# Altium footprint library STEM_PCB.PcbLib: 50 footprints (part 1 of 4)
Each footprint in its own frame and in the unit in brackets; x right, y up, seen from the top. Pads: shape width x height; smd on the part's side, far side on the other; paste and mask are expansions set on the pad; w line width, h text height; cw(c..) or ccw(c..) is an arc to the next point about the centre after c.
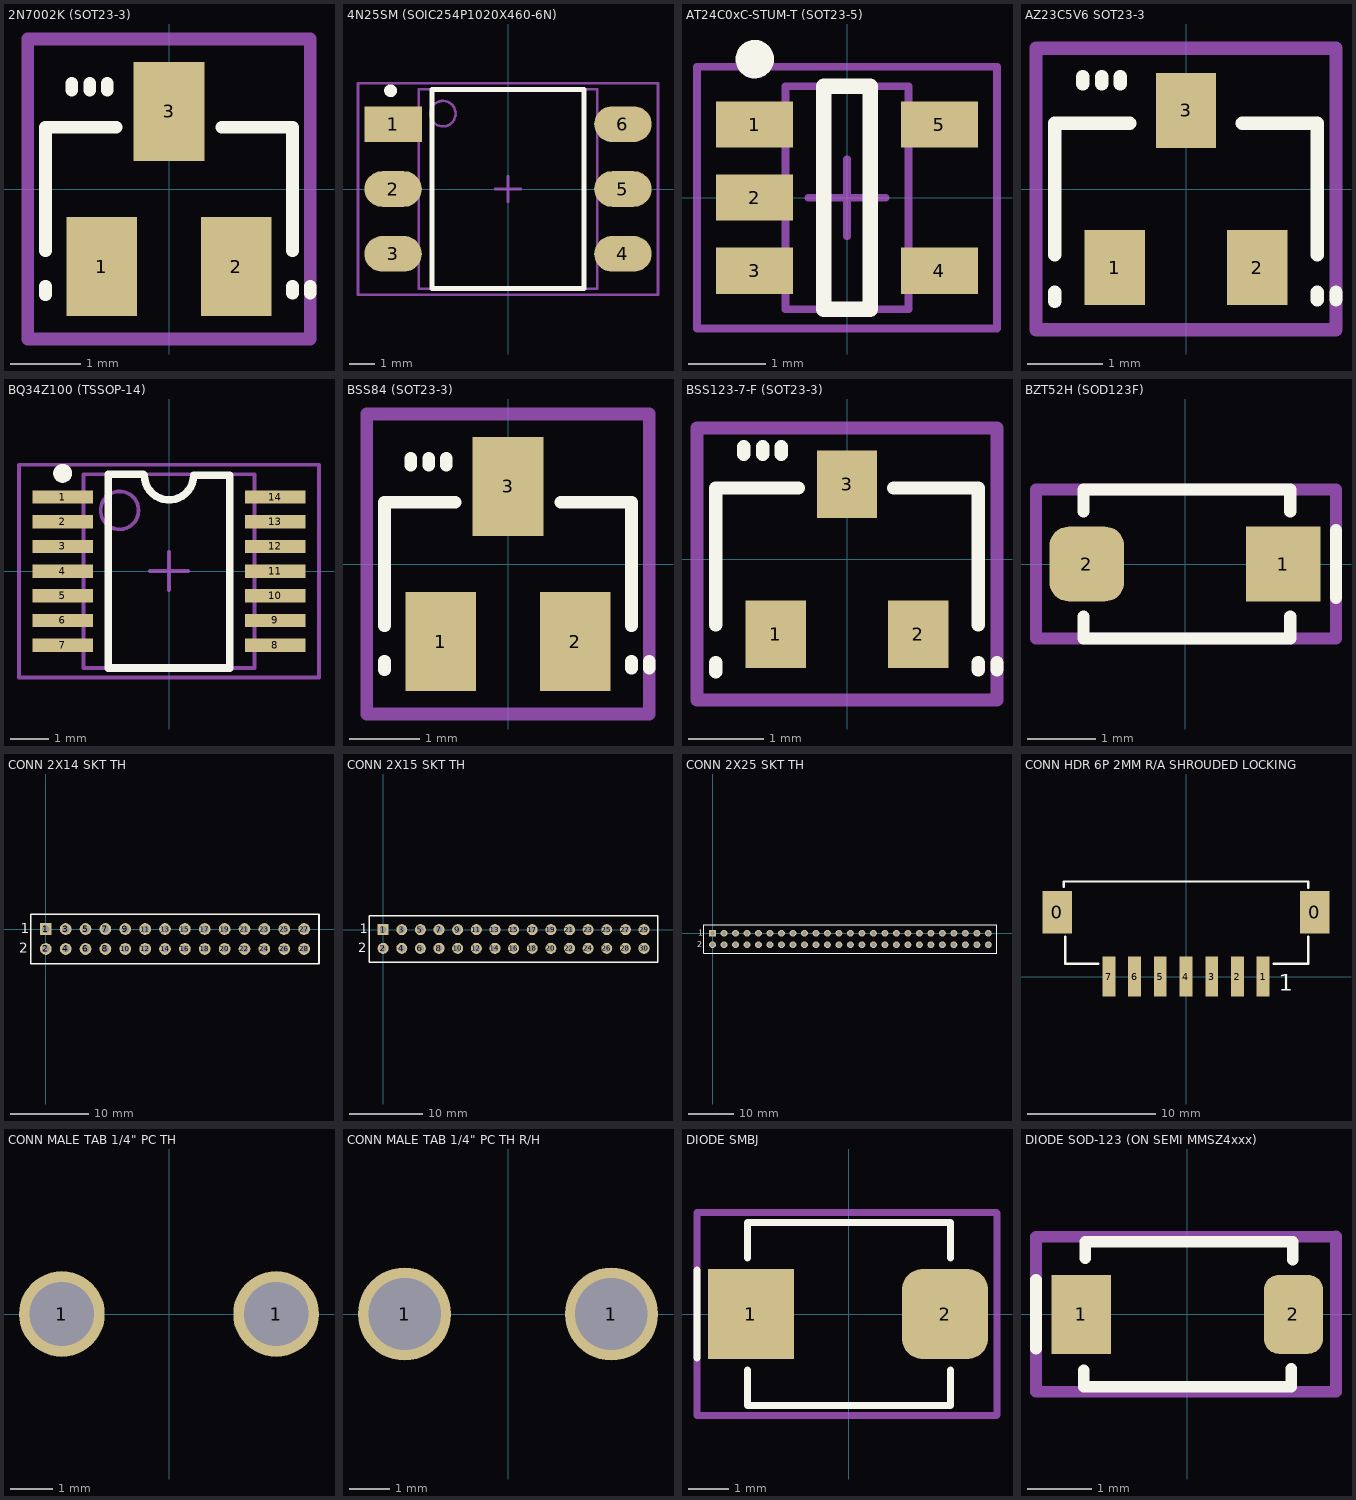
[diagram p0: the footprints below, top view; thin cyan lines are the x and y axes]

## 2N7002K (SOT23-3) [mm] "SOT-23-3 for 2N7002K"
height 1.12
pads (3):
  rect 1x1.4 smd: 1(-0.95,-1.1) 2(0.95,-1.1) 3(0,1.1)
Top Overlay:
  lines w0.178: -1.75,-1.5 -1.75,-1.375 ; -1.75,-0.875 -1.75,0.875 -0.75,0.875 ; -1.375,1.4 -1.375,1.5 ; -1.125,1.4 -1.125,1.5 ; -0.875,1.4 -0.875,1.5 ; 0.75,0.875 1.75,0.875 1.75,-0.875 ; 1.75,-1.475 1.75,-1.375 ; 2,-1.475 2,-1.375
Mechanical 15:
  lines w0.178: -2,-2.125 -2,2.125 2,2.125 2,-2.125 -2,-2.125
3D body: height 1.12, standoff 0.01, extent -1.525,-0.7 1.525,0.7
3D body: height 0.25, standoff 0, extent -0.25,0.7 0.25,1.325
3D body: height 0.25, standoff 0, extent -1.2,-1.325 -0.7,-0.7
3D body: height 0.25, standoff 0, extent 0.7,-1.325 1.2,-0.7

## 4N25SM (SOIC254P1020X460-6N) [mm] "SOIC, 6-Leads, Body 7.8x7.0mm (max), Pitch 2.54mm, IPC Medium Density"
height 4.6
pads (6):
  rect 2.25x1.4 smd: 1(-4.5,2.54)
  oval 2.25x1.4 smd: 2(-4.5,0) 3(-4.5,-2.54) 4(4.5,-2.54) 5(4.5,0) 6(4.5,2.54)
Top Overlay:
  circle w0.25: c-4.6,3.85 r0.125
  lines w0.2: -2.975,-3.9 -2.975,3.9 2.975,3.9 2.975,-3.9 -2.975,-3.9
Mechanical 13:
  circle w0.1: c-2.55,2.95 r0.5
  lines w0.1: -3.5,-3.9 -3.5,3.9 3.5,3.9 3.5,-3.9 -3.5,-3.9
Mechanical 15:
  lines w0.1: -0.5,0 0.5,0 ; 0,-0.5 0,0.5 ; -5.875,-4.15 -5.875,4.15 5.875,4.15 5.875,-4.15 -5.875,-4.15
3D body: height 4.6, standoff 0.1, extent -3.5,-3.9 3.5,3.9
3D body: height 0.6, standoff 0, extent -5.25,1.9 -3.5,3.2
3D body: height 0.6, standoff 0, extent -5.25,-0.65 -3.5,0.65
3D body: height 0.6, standoff 0, extent -5.25,-3.2 -3.5,-1.9
3D body: height 0.6, standoff 0, extent 3.5,-3.2 5.25,-1.9
3D body: height 0.6, standoff 0, extent 3.5,-0.65 5.25,0.65
3D body: height 0.6, standoff 0, extent 3.5,1.9 5.25,3.2

## AT24C0xC-STUM-T (SOT23-5) [mm]
height 1
pads (5):
  rect 1x0.6 smd: 1(-1.2,0.95) 2(-1.2,0) 3(-1.2,-0.95) 4(1.2,-0.95) 5(1.2,0.95)
Top Overlay:
  circle w0.25: c-1.2,1.8 r0.125
  lines w0.2: -0.3,-1.45 0.3,-1.45 0.3,1.45 -0.3,1.45 -0.3,-1.45
Mechanical 13:
  lines w0.1: -0.8,-1.45 -0.8,1.45 0.8,1.45 0.8,-1.45 -0.8,-1.45
Mechanical 15:
  lines w0.1: -0.5,0 0.5,0 ; 0,-0.5 0,0.5 ; -1.95,-1.7 -1.95,1.7 1.95,1.7 1.95,-1.7 -1.95,-1.7
3D body: height 1, standoff 0, extent -0.8,-1.45 0.8,1.45

## AZ23C5V6 SOT23-3 [mm] "SOT-23-3 for AZ23C5V6"
height 1.2
pads (3):
  rect 0.8x1 smd: 1(-0.95,-1.05) 2(0.95,-1.05) 3(0,1.05)
Top Overlay:
  lines w0.178: -1.75,-1.5 -1.75,-1.375 ; -1.75,-0.875 -1.75,0.875 -0.75,0.875 ; -1.375,1.4 -1.375,1.5 ; -1.125,1.4 -1.125,1.5 ; -0.875,1.4 -0.875,1.5 ; 0.75,0.875 1.75,0.875 1.75,-0.875 ; 1.75,-1.475 1.75,-1.375 ; 2,-1.475 2,-1.375
Mechanical 15:
  lines w0.178: -2,-1.875 2,-1.875 2,1.875 -2,1.875 -2,-1.875
3D body: height 1.2, standoff 0.05, extent -1.525,-0.7 1.525,0.7
3D body: height 0.11, standoff 0, extent -1.2,-1.325 -0.7,-0.7
3D body: height 0.11, standoff 0, extent 0.7,-1.325 1.2,-0.7
3D body: height 0.11, standoff 0, extent -0.25,0.7 0.25,1.325

## BQ34Z100 (TSSOP-14) [mm] "TSOP, 14-Leads, Body 5.1x4.5mm (max), Pitch 0.65mm, IPC Medium Density"
height 1.2
pads (14):
  rect 1.6x0.35 smd: 1(-2.8,1.95) 2(-2.8,1.3) 3(-2.8,0.65) 4(-2.8,0) 5(-2.8,-0.65) 6(-2.8,-1.3) 7(-2.8,-1.95) 8(2.8,-1.95) 9(2.8,-1.3) 10(2.8,-0.65) 11(2.8,0) 12(2.8,0.65) 13(2.8,1.3) 14(2.8,1.95)
Top Overlay:
  circle w0.25: c-2.8,2.575 r0.125
  lines w0.2: -0.675,2.55 -1.6,2.55 -1.6,-2.55 1.6,-2.55 1.6,2.525 0.65,2.525 cw(c0,2.525) -0.65,2.525
Mechanical 13:
  circle w0.1: c-1.3,1.6 r0.5
  lines w0.1: -2.25,-2.55 -2.25,2.55 2.25,2.55 2.25,-2.55 -2.25,-2.55
Mechanical 15:
  lines w0.1: -0.5,0 0.5,0 ; 0,-0.5 0,0.5 ; -3.95,-2.8 -3.95,2.8 3.95,2.8 3.95,-2.8 -3.95,-2.8
3D body: height 1.2, standoff 0.15, extent -2.25,-2.55 2.25,2.55
3D body: height 0.25, standoff 0, extent -3.312,1.8 -2.237,2.1
3D body: height 0.25, standoff 0, extent 2.238,1.15 3.313,1.45
3D body: height 0.25, standoff 0, extent 2.225,0.5 3.3,0.8
3D body: height 0.25, standoff 0, extent 2.225,-0.15 3.3,0.15
3D body: height 0.25, standoff 0, extent 2.225,-0.8 3.3,-0.5
3D body: height 0.25, standoff 0, extent 2.225,-1.45 3.3,-1.15
3D body: height 0.25, standoff 0, extent 2.225,-2.1 3.3,-1.8
3D body: height 0.25, standoff 0, extent 2.225,1.8 3.3,2.1
3D body: height 0.25, standoff 0, extent -3.312,1.15 -2.237,1.45
3D body: height 0.25, standoff 0, extent -3.312,0.5 -2.237,0.8
3D body: height 0.25, standoff 0, extent -3.312,-0.15 -2.237,0.15
3D body: height 0.25, standoff 0, extent -3.312,-0.8 -2.237,-0.5
3D body: height 0.25, standoff 0, extent -3.312,-1.45 -2.237,-1.15
3D body: height 0.25, standoff 0, extent -3.312,-2.1 -2.237,-1.8

## BSS84 (SOT23-3) [mm] "SOT-23-3 for BSS84"
height 1.1
pads (3):
  rect 1x1.4 smd: 1(-0.95,-1.1) 2(0.95,-1.1) 3(0,1.1)
Top Overlay:
  lines w0.178: -1.75,-1.5 -1.75,-1.375 ; -1.75,-0.875 -1.75,0.875 -0.75,0.875 ; -1.375,1.4 -1.375,1.5 ; -1.125,1.4 -1.125,1.5 ; -0.875,1.4 -0.875,1.5 ; 0.75,0.875 1.75,0.875 1.75,-0.875 ; 1.75,-1.475 1.75,-1.375 ; 2,-1.475 2,-1.375
Mechanical 15:
  lines w0.178: -2,-2.125 2,-2.125 2,2.125 -2,2.125 -2,-2.125
3D body: height 1.12, standoff 0.01, extent -1.525,-0.7 1.525,0.7
3D body: height 0.25, standoff 0, extent -0.25,0.7 0.25,1.325
3D body: height 0.25, standoff 0, extent -1.2,-1.325 -0.7,-0.7
3D body: height 0.25, standoff 0, extent 0.7,-1.325 1.2,-0.7

## BSS123-7-F (SOT23-3) [mm] "SOT-23-3 for BSS123-7-F"
height 1.2
pads (3):
  rect 0.8x0.9 smd: 1(-0.95,-1) 2(0.95,-1) 3(0,1)
Top Overlay:
  lines w0.178: -1.75,-1.5 -1.75,-1.375 ; -1.75,-0.875 -1.75,0.35 -1.75,0.95 -0.65,0.95 ; -1.375,1.4 -1.375,1.5 ; -1.125,1.4 -1.125,1.5 ; -0.875,1.4 -0.875,1.5 ; 0.625,0.95 1.75,0.95 1.75,0.45 1.75,-0.875 ; 1.75,-1.475 1.75,-1.375 ; 2,-1.475 2,-1.375
Mechanical 15:
  lines w0.178: -2,-1.875 2,-1.875 2,1.75 -2,1.75 -2,-1.875
3D body: height 1.2, standoff 0.05, extent -1.5,-0.7 1.5,0.7
3D body: height 0.11, standoff 0, extent -1.2,-1.2 -0.7,-0.7
3D body: height 0.11, standoff 0, extent 0.7,-1.2 1.2,-0.7
3D body: height 0.11, standoff 0, extent -0.25,0.7 0.25,1.2

## BZT52H (SOD123F) [mm]
height 1.2
pads (2):
  rect 1.1x1.1 smd: 1(1.45,0)
  rrect50% 1.1x1.1 smd: 2(-1.45,0)
Top Overlay:
  lines w0.178: -1.5,-0.775 -1.5,-1.1 1.55,-1.1 1.55,-0.775 ; -1.5,0.775 -1.5,1.1 1.55,1.1 1.55,0.775 ; 2.225,-0.5 2.225,0.5
Mechanical 15:
  lines w0.178: -2.2,-1.1 -2.2,1.1 2.225,1.1 2.225,-1.1 -2.2,-1.1
3D body: height 1.2, standoff 0, extent -1.35,-0.85 1.35,0.85
3D body: height 0.25, standoff 0, extent 1.35,-0.35 1.8,0.35
3D body: height 0.25, standoff 0, extent -1.8,-0.35 -1.35,0.35

## CONN 2X14 SKT TH [mm]
pads (28):
  rect 1.5x1.5 hole 0.953: 1(0,0)
  round 1.5 hole 0.953: 2(0,-2.54) 3(2.54,0) 4(2.54,-2.54) 5(5.08,0) 6(5.08,-2.54) 7(7.62,0) 8(7.62,-2.54) 9(10.16,0) 10(10.16,-2.54) 11(12.7,0) 12(12.7,-2.54) 13(15.24,0) 14(15.24,-2.54) 15(17.78,0) 16(17.78,-2.54) 17(20.32,0) 18(20.32,-2.54) 19(22.86,0) 20(22.86,-2.54) 21(25.4,0) 22(25.4,-2.54) 23(27.94,0) 24(27.94,-2.54) 27(33.02,0) 28(33.02,-2.54)
  round 1.5 hole 0.953 unplated: 25(30.48,0) 26(30.48,-2.54)
Top Overlay:
  lines w0.2: -1.905,-4.445 -1.905,1.905 34.925,1.905 34.925,-4.445 -1.905,-4.445
  text "2" at -3.429,-3.048 h1.27
  text "1" at -3.175,-0.508 h1.27
3D body: height 6.38, standoff -3.17, extent 25.095,-0.305 25.705,0.305
3D body: height 6.38, standoff -3.17, extent 27.635,-0.305 28.245,0.305
3D body: height 6.38, standoff -3.17, extent 30.175,-0.305 30.785,0.305
3D body: height 6.38, standoff -3.17, extent 32.715,-0.305 33.325,0.305
3D body: height 6.38, standoff -3.17, extent 25.095,-2.845 25.705,-2.235
3D body: height 6.38, standoff -3.17, extent 27.635,-2.845 28.245,-2.235
3D body: height 6.38, standoff -3.17, extent 30.175,-2.845 30.785,-2.235
3D body: height 6.38, standoff -3.17, extent 32.715,-2.845 33.325,-2.235
3D body: height 6.38, standoff -3.17, extent 12.395,-0.305 13.005,0.305
3D body: height 6.38, standoff -3.17, extent 14.935,-0.305 15.545,0.305
3D body: height 6.38, standoff -3.17, extent 17.475,-0.305 18.085,0.305
3D body: height 6.38, standoff -3.17, extent 20.015,-0.305 20.625,0.305
3D body: height 6.38, standoff -3.17, extent 22.555,-0.305 23.165,0.305
3D body: height 6.38, standoff -3.17, extent 12.395,-2.845 13.005,-2.235
3D body: height 6.38, standoff -3.17, extent 14.935,-2.845 15.545,-2.235
3D body: height 6.38, standoff -3.17, extent 17.475,-2.845 18.085,-2.235
3D body: height 6.38, standoff -3.17, extent 20.015,-2.845 20.625,-2.235
3D body: height 6.38, standoff -3.17, extent 22.555,-2.845 23.165,-2.235
3D body: height 6.38, standoff -3.17, extent -0.305,-2.845 0.305,-2.235
3D body: height 6.38, standoff -3.17, extent 2.235,-2.845 2.845,-2.235
3D body: height 6.38, standoff -3.17, extent 4.775,-2.845 5.385,-2.235
3D body: height 6.38, standoff -3.17, extent 7.315,-2.845 7.925,-2.235
3D body: height 6.38, standoff -3.17, extent 9.855,-2.845 10.465,-2.235
3D body: height 6.38, standoff -3.17, extent 9.855,-0.305 10.465,0.305
3D body: height 6.38, standoff -3.17, extent 7.315,-0.305 7.925,0.305
3D body: height 6.38, standoff -3.17, extent 4.775,-0.305 5.385,0.305
3D body: height 6.38, standoff -3.17, extent 2.235,-0.305 2.845,0.305
3D body: height 6.38, standoff -3.17, extent -0.305,-0.305 0.305,0.305
3D body: height 6.35, standoff 0, extent -1.27,-3.81 34.29,1.27

## CONN 2X15 SKT TH [mm]
height 11.049
pads (30):
  rect 1.5x1.5 hole 0.953: 1(0,0)
  round 1.5 hole 0.953: 2(0,-2.54) 3(2.54,0) 4(2.54,-2.54) 5(5.08,0) 6(5.08,-2.54) 7(7.62,0) 8(7.62,-2.54) 9(10.16,0) 10(10.16,-2.54) 11(12.7,0) 12(12.7,-2.54) 13(15.24,0) 14(15.24,-2.54) 15(17.78,0) 16(17.78,-2.54) 17(20.32,0) 18(20.32,-2.54) 19(22.86,0) 20(22.86,-2.54) 21(25.4,0) 22(25.4,-2.54) 23(27.94,0) 24(27.94,-2.54) 27(33.02,0) 28(33.02,-2.54) 29(35.56,0) 30(35.56,-2.54)
  round 1.5 hole 0.953 unplated: 25(30.48,0) 26(30.48,-2.54)
Top Overlay:
  lines w0.2: -1.905,-4.445 -1.905,1.905 37.465,1.905 37.465,-4.445 -1.905,-4.445
  text "2" at -3.429,-3.048 h1.27
  text "1" at -3.175,-0.508 h1.27
3D body: height 6.38, standoff -3.17, extent 25.095,-0.305 25.705,0.305
3D body: height 6.38, standoff -3.17, extent 27.635,-0.305 28.245,0.305
3D body: height 6.38, standoff -3.17, extent 30.175,-0.305 30.785,0.305
3D body: height 6.38, standoff -3.17, extent 32.715,-0.305 33.325,0.305
3D body: height 6.38, standoff -3.17, extent 25.095,-2.845 25.705,-2.235
3D body: height 6.38, standoff -3.17, extent 27.635,-2.845 28.245,-2.235
3D body: height 6.38, standoff -3.17, extent 30.175,-2.845 30.785,-2.235
3D body: height 6.38, standoff -3.17, extent 32.715,-2.845 33.325,-2.235
3D body: height 6.38, standoff -3.17, extent 12.395,-0.305 13.005,0.305
3D body: height 6.38, standoff -3.17, extent 14.935,-0.305 15.545,0.305
3D body: height 6.38, standoff -3.17, extent 17.475,-0.305 18.085,0.305
3D body: height 6.38, standoff -3.17, extent 20.015,-0.305 20.625,0.305
3D body: height 6.38, standoff -3.17, extent 22.555,-0.305 23.165,0.305
3D body: height 6.38, standoff -3.17, extent 12.395,-2.845 13.005,-2.235
3D body: height 6.38, standoff -3.17, extent 14.935,-2.845 15.545,-2.235
3D body: height 6.38, standoff -3.17, extent 17.475,-2.845 18.085,-2.235
3D body: height 6.38, standoff -3.17, extent 20.015,-2.845 20.625,-2.235
3D body: height 6.38, standoff -3.17, extent 22.555,-2.845 23.165,-2.235
3D body: height 6.38, standoff -3.17, extent -0.305,-2.845 0.305,-2.235
3D body: height 6.38, standoff -3.17, extent 2.235,-2.845 2.845,-2.235
3D body: height 6.38, standoff -3.17, extent 4.775,-2.845 5.385,-2.235
3D body: height 6.38, standoff -3.17, extent 7.315,-2.845 7.925,-2.235
3D body: height 6.38, standoff -3.17, extent 9.855,-2.845 10.465,-2.235
3D body: height 6.38, standoff -3.17, extent 9.855,-0.305 10.465,0.305
3D body: height 6.38, standoff -3.17, extent 7.315,-0.305 7.925,0.305
3D body: height 6.38, standoff -3.17, extent 4.775,-0.305 5.385,0.305
3D body: height 6.38, standoff -3.17, extent 2.235,-0.305 2.845,0.305
3D body: height 6.38, standoff -3.17, extent -0.305,-0.305 0.305,0.305
3D body: height 6.35, standoff 0, extent -1.27,-3.81 36.83,1.27
3D body: height 6.38, standoff -3.17, extent 35.255,-0.305 35.865,0.305
3D body: height 6.38, standoff -3.17, extent 35.255,-2.845 35.865,-2.235

## CONN 2X25 SKT TH [mm]
pads (50):
  rect 1.5x1.5 hole 0.953: 1(0,0)
  round 1.5 hole 0.953: 2(0,-2.54) 3(2.54,0) 4(2.54,-2.54) 5(5.08,0) 6(5.08,-2.54) 7(7.62,0) 8(7.62,-2.54) 9(10.16,0) 10(10.16,-2.54) 11(12.7,0) 12(12.7,-2.54) 13(15.24,0) 14(15.24,-2.54) 15(17.78,0) 16(17.78,-2.54) 17(20.32,0) 18(20.32,-2.54) 19(22.86,0) 20(22.86,-2.54) 21(25.4,0) 22(25.4,-2.54) 23(27.94,0) 24(27.94,-2.54) 27(33.02,0) 28(33.02,-2.54) 29(35.56,0) 30(35.56,-2.54) 31(38.1,0) 32(38.1,-2.54) 33(40.64,0) 34(40.64,-2.54) 35(43.18,0) 36(43.18,-2.54) 37(45.72,0) 38(45.72,-2.54) 39(48.26,0) 40(48.26,-2.54) 41(50.8,0) 42(50.8,-2.54) 43(53.34,0) 44(53.34,-2.54) 45(55.88,0) 46(55.88,-2.54) 47(58.42,0) 48(58.42,-2.54) 49(60.96,0) 50(60.96,-2.54)
  round 1.5 hole 0.953 unplated: 25(30.48,0) 26(30.48,-2.54)
Top Overlay:
  lines w0.2: -1.905,-4.445 62.865,-4.445 62.865,1.905 -1.905,1.905 -1.905,-4.445
  text "1" at -3.175,-0.508 h1.27
  text "2" at -3.429,-3.048 h1.27
3D body: height 6.35, standoff 0, extent -1.27,-3.81 62.23,1.778
3D body: height 6.38, standoff -3.17, extent -0.305,-0.305 0.305,0.305
3D body: height 6.38, standoff -3.17, extent 2.235,-0.305 2.845,0.305
3D body: height 6.38, standoff -3.17, extent 4.775,-0.305 5.385,0.305
3D body: height 6.38, standoff -3.17, extent 7.315,-0.305 7.925,0.305
3D body: height 6.38, standoff -3.17, extent 9.855,-0.305 10.465,0.305
3D body: height 6.38, standoff -3.17, extent 9.855,-2.845 10.465,-2.235
3D body: height 6.38, standoff -3.17, extent 7.315,-2.845 7.925,-2.235
3D body: height 6.38, standoff -3.17, extent 4.775,-2.845 5.385,-2.235
3D body: height 6.38, standoff -3.17, extent 2.235,-2.845 2.845,-2.235
3D body: height 6.38, standoff -3.17, extent -0.305,-2.845 0.305,-2.235
3D body: height 6.38, standoff -3.17, extent 22.555,-2.845 23.165,-2.235
3D body: height 6.38, standoff -3.17, extent 20.015,-2.845 20.625,-2.235
3D body: height 6.38, standoff -3.17, extent 17.475,-2.845 18.085,-2.235
3D body: height 6.38, standoff -3.17, extent 14.935,-2.845 15.545,-2.235
3D body: height 6.38, standoff -3.17, extent 12.395,-2.845 13.005,-2.235
3D body: height 6.38, standoff -3.17, extent 22.555,-0.305 23.165,0.305
3D body: height 6.38, standoff -3.17, extent 20.015,-0.305 20.625,0.305
3D body: height 6.38, standoff -3.17, extent 17.475,-0.305 18.085,0.305
3D body: height 6.38, standoff -3.17, extent 14.935,-0.305 15.545,0.305
3D body: height 6.38, standoff -3.17, extent 12.395,-0.305 13.005,0.305
3D body: height 6.38, standoff -3.17, extent 35.255,-2.845 35.865,-2.235
3D body: height 6.38, standoff -3.17, extent 32.715,-2.845 33.325,-2.235
3D body: height 6.38, standoff -3.17, extent 30.175,-2.845 30.785,-2.235
3D body: height 6.38, standoff -3.17, extent 27.635,-2.845 28.245,-2.235
3D body: height 6.38, standoff -3.17, extent 25.095,-2.845 25.705,-2.235
3D body: height 6.38, standoff -3.17, extent 35.255,-0.305 35.865,0.305
3D body: height 6.38, standoff -3.17, extent 32.715,-0.305 33.325,0.305
3D body: height 6.38, standoff -3.17, extent 30.175,-0.305 30.785,0.305
3D body: height 6.38, standoff -3.17, extent 27.635,-0.305 28.245,0.305
3D body: height 6.38, standoff -3.17, extent 25.095,-0.305 25.705,0.305
3D body: height 6.38, standoff -3.17, extent 47.955,-0.305 48.565,0.305
3D body: height 6.38, standoff -3.17, extent 45.415,-0.305 46.025,0.305
3D body: height 6.38, standoff -3.17, extent 42.875,-0.305 43.485,0.305
3D body: height 6.38, standoff -3.17, extent 40.335,-0.305 40.945,0.305
3D body: height 6.38, standoff -3.17, extent 37.795,-0.305 38.405,0.305
3D body: height 6.38, standoff -3.17, extent 47.955,-2.845 48.565,-2.235
3D body: height 6.38, standoff -3.17, extent 45.415,-2.845 46.025,-2.235
3D body: height 6.38, standoff -3.17, extent 42.875,-2.845 43.485,-2.235
3D body: height 6.38, standoff -3.17, extent 40.335,-2.845 40.945,-2.235
3D body: height 6.38, standoff -3.17, extent 37.795,-2.845 38.405,-2.235
3D body: height 6.38, standoff -3.17, extent 60.655,-0.305 61.265,0.305
3D body: height 6.38, standoff -3.17, extent 58.115,-0.305 58.725,0.305
3D body: height 6.38, standoff -3.17, extent 55.575,-0.305 56.185,0.305
3D body: height 6.38, standoff -3.17, extent 53.035,-0.305 53.645,0.305
3D body: height 6.38, standoff -3.17, extent 50.495,-0.305 51.105,0.305
3D body: height 6.38, standoff -3.17, extent 60.655,-2.845 61.265,-2.235
3D body: height 6.38, standoff -3.17, extent 58.115,-2.845 58.725,-2.235
3D body: height 6.38, standoff -3.17, extent 55.575,-2.845 56.185,-2.235
3D body: height 6.38, standoff -3.17, extent 53.035,-2.845 53.645,-2.235
3D body: height 6.38, standoff -3.17, extent 50.495,-2.845 51.105,-2.235

## CONN HDR 6P 2MM R/A SHROUDED LOCKING [mm]
height 5.4
pads (9):
  rect 2.3x3.3 smd: 0(-10.02,5) 0(10.02,5)
  rect 1x3.1 smd: 1(6,0) 2(4,0) 3(2,0) 4(0,0) 5(-2,0) 6(-4,0) 7(-6,0)
Top Overlay:
  lines w0.178: -9.5,7 -9.5,7.4 9.5,7.4 9.5,6.9 ; -9.4,3.1 -9.4,1 -6.8,1 ; 6.8,1 9.5,1 9.5,3.1
  text "1" at 7.2,-1.1 h1.27
3D body: height 4.25, standoff 3.75, extent 5.75,1.45 6.249,6.95
3D body: height 4.25, standoff 3.75, extent 3.75,1.45 4.249,6.95
3D body: height 4.25, standoff 3.75, extent 1.75,1.45 2.249,6.95
3D body: height 4.25, standoff 3.75, extent -0.275,1.45 0.224,6.95
3D body: height 4.25, standoff 3.75, extent -2.25,1.45 -1.751,6.95
3D body: height 4.25, standoff 3.75, extent -4.25,1.45 -3.751,6.95
3D body: height 4.25, standoff 3.75, extent -6.25,1.45 -5.751,6.95
3D body: height 5.6, standoff 0, extent -8.775,1.425 8.775,1.9
3D body: height 5.6, standoff 0, extent 8.775,1.25 9.25,7.15
3D body: height 5.6, standoff 0, extent -9.25,1.25 -8.775,7.15
3D body: height 5.6, standoff 5.1, extent -9.25,1.25 9.25,7.15
3D body: height 0.75, standoff 0, extent 5.65,-1.25 6.35,1.25
3D body: height 0.75, standoff 0, extent 3.65,-1.25 4.35,1.25
3D body: height 0.75, standoff 0, extent 1.65,-1.25 2.35,1.25
3D body: height 0.75, standoff 0, extent -0.35,-1.25 0.35,1.25
3D body: height 0.75, standoff 0, extent -2.35,-1.25 -1.65,1.25
3D body: height 0.75, standoff 0, extent -4.35,-1.25 -3.65,1.25
3D body: height 0.75, standoff 0, extent -6.35,-1.25 -5.65,1.25
3D body: height 1.5, standoff 0, extent 9.25,3.95 10.75,6.15
3D body: height 1.5, standoff 0, extent -10.75,3.95 -9.25,6.15
3D body: height 0.5, standoff 0, extent -9.25,1.25 9.25,7.15

## CONN MALE TAB 1/4" PC TH [mil] "Keystone 1287-ST"
height 402
pads (2):
  round 80 hole 60: 1(-100,0) 1(100,0)
3D body: height 402, standoff 0, extent -125,-16 125,16
3D body: height 90, standoff 0, extent -156,-16 156,16
3D body: height 0, standoff -150, extent -125,-16 -75,16
3D body: height 90, standoff 0, extent -125,-16 -75,16
3D body: height 0, standoff -150, extent 75,-16 125,16
3D body: height 90, standoff 0, extent -59.52,-59.88 60.01,59.88

## CONN MALE TAB 1/4" PC TH R/H [mil] "Keystone 4966"
height 402
pads (2):
  round 90 hole 70: 1(-100,0) 1(100,0)
3D body: height 0, standoff -150, extent -128,-16 -72,16
3D body: height 350, standoff 100, extent -462,-16 128,16
3D body: height 0, standoff -150, extent 72.01,-16 128,16
3D body: height 100, standoff 0, extent -150,-16 128,16

## DIODE SMBJ [mm]
height 2.44
pads (2):
  rect 2.16x2.26 smd: 1(-2.45,0)
  rrect50% 2.16x2.26 smd: 2(2.4,0)
Top Overlay:
  lines w0.178: -3.8,-1.1 -3.8,1.1 ; -2.54,-1.397 -2.54,-2.286 2.54,-2.286 2.54,-1.397 ; -2.54,1.397 -2.54,2.286 2.54,2.286 2.54,1.397
Mechanical 15:
  lines w0.178: -3.8,-2.54 -3.8,-2.1 -3.8,2.1 -3.8,2.53 -3.79,2.54 3.683,2.54 3.7,2.523 3.7,2.1 3.7,-2.523 3.683,-2.54 -3.8,-2.54
3D body: height 2.44, standoff 0.2, extent -2.286,-2.032 2.286,2.032
3D body: height 1.22, standoff 0, extent -2.794,-1.092 -1.27,1.092
3D body: height 1.22, standoff 0, extent 1.27,-1.092 2.794,1.092
3D body: height 2.46, standoff 0.25, extent -1.905,-1.778 -1.651,1.778

## DIODE SOD-123 (ON SEMI MMSZ4xxx) [mil]
height 53
pads (2):
  rect 36x48 smd: 1(-64.5,0)
  rrect50% 36x48 smd: 2(64.5,0)
Top Overlay:
  lines w7: -92,-21 -92,21 ; -63,-34 -63,-44 63,-44 63,-33 ; -62,34 -62,44 64,44 64,33
Mechanical 15:
  lines w7: -92,-47 90.34,-47 90.34,27.35 90.34,47.34 90,47 -92,47 -92,-47
3D body: height 53, standoff 0, extent -56,-35 56,35
3D body: height 25, standoff 0, extent -76,-14 -56,14
3D body: height 25, standoff 0, extent 56,-14 76,14
3D body: height 54, standoff 1, extent -50,-30 -15,30